# Altium footprint library IPC-SM-782 Section 11.2 SQFP_QFP-Square.PcbLib: 78 footprints (part 3 of 7)
Each footprint in its own frame and in the unit in brackets; x right, y up, seen from the top. Pads: shape width x height; smd on the part's side, far side on the other; paste and mask are expansions set on the pad; w line width, h text height; cw(c..) or ccw(c..) is an arc to the next point about the centre after c.
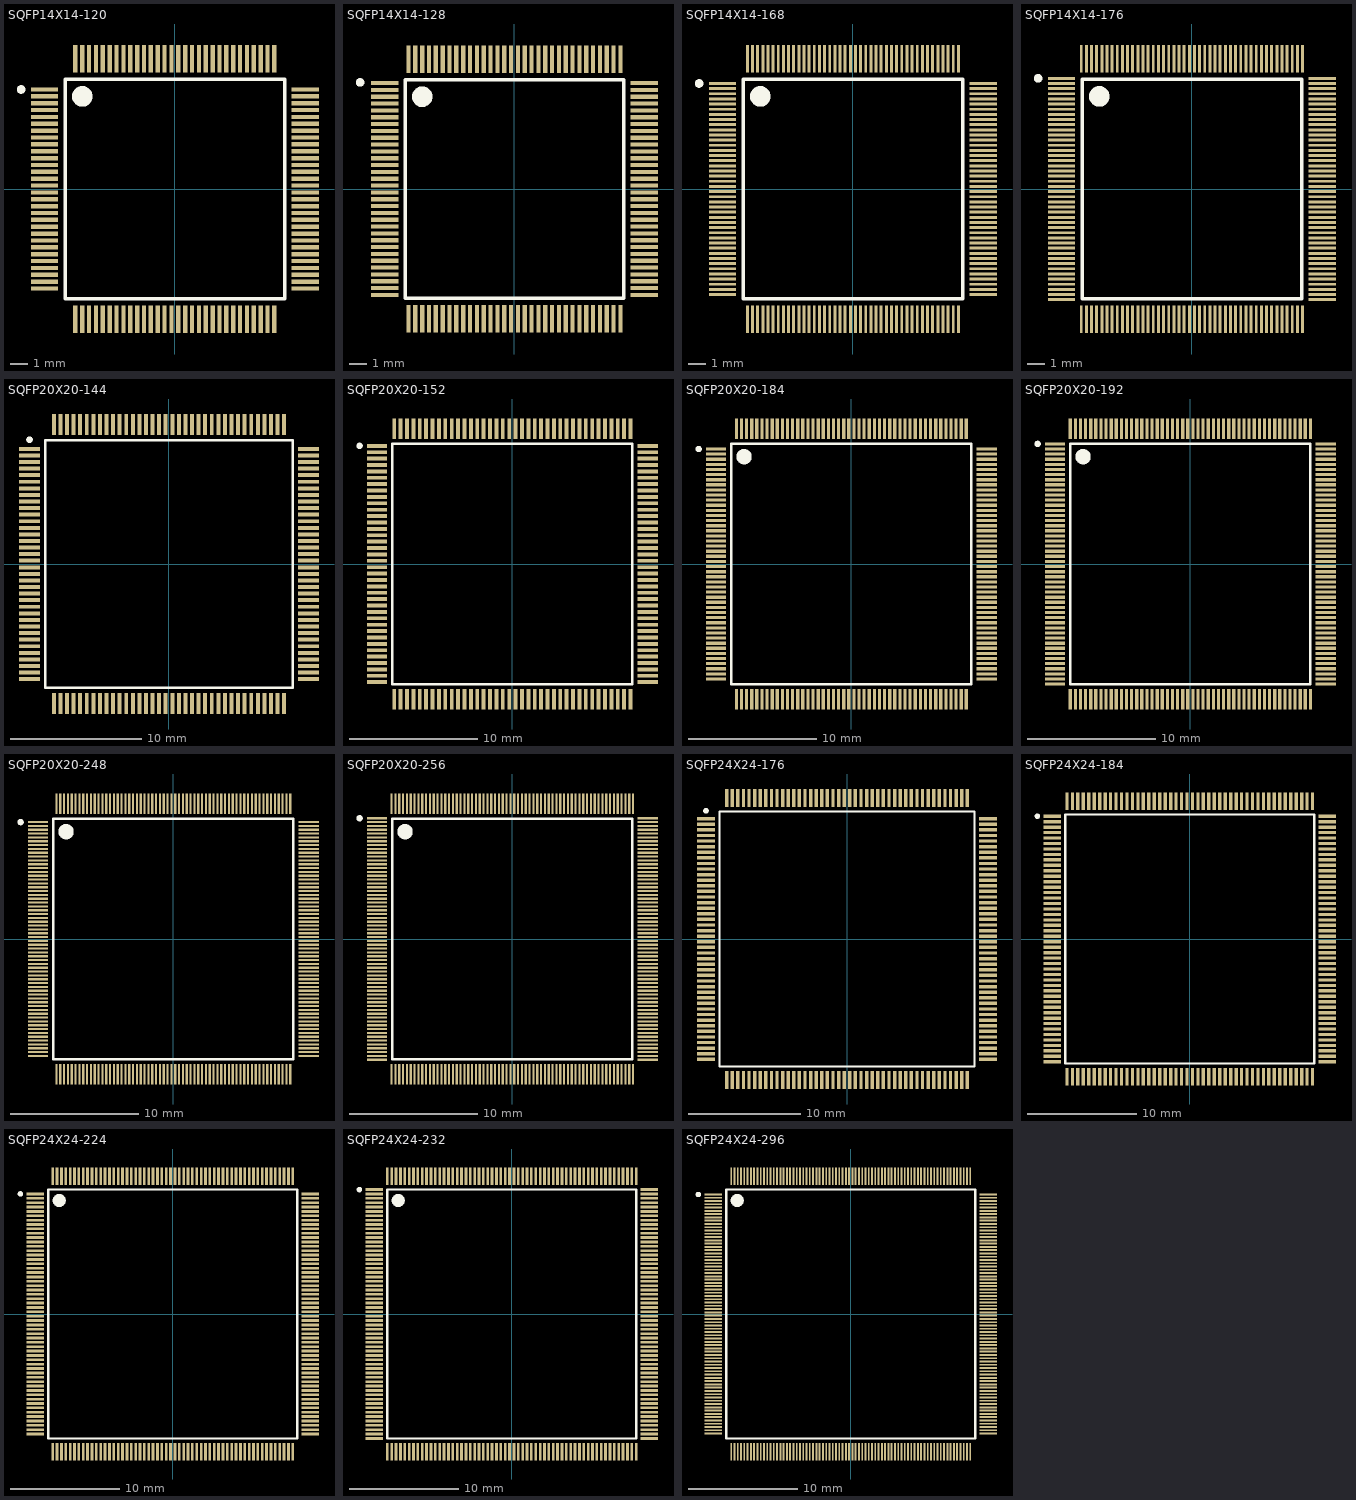
[diagram p2: the footprints below, top view; thin cyan lines are the x and y axes]

## SQFP14X14-120 [mm] "QFP; 120 Leads; Body 14 x 14 mm; Pitch 0.4 mm"
height 2.2
pads (120):
  rect 1.6x0.25 smd: 1(-7.6,5.8) 2(-7.6,5.4) 3(-7.6,5) 4(-7.6,4.6) 5(-7.6,4.2) 6(-7.6,3.8) 7(-7.6,3.4) 8(-7.6,3) 9(-7.6,2.6) 10(-7.6,2.2) 11(-7.6,1.8) 12(-7.6,1.4) 13(-7.6,1) 14(-7.6,0.6) 15(-7.6,0.2) 16(-7.6,-0.2) 17(-7.6,-0.6) 18(-7.6,-1) 19(-7.6,-1.4) 20(-7.6,-1.8) 21(-7.6,-2.2) 22(-7.6,-2.6) 23(-7.6,-3) 24(-7.6,-3.4) 25(-7.6,-3.8) 26(-7.6,-4.2) 27(-7.6,-4.6) 28(-7.6,-5) 29(-7.6,-5.4) 30(-7.6,-5.8) 61(7.6,-5.8) 62(7.6,-5.4) 63(7.6,-5) 64(7.6,-4.6) 65(7.6,-4.2) 66(7.6,-3.8) 67(7.6,-3.4) 68(7.6,-3) 69(7.6,-2.6) 70(7.6,-2.2) 71(7.6,-1.8) 72(7.6,-1.4) 73(7.6,-1) 74(7.6,-0.6) 75(7.6,-0.2) 76(7.6,0.2) 77(7.6,0.6) 78(7.6,1) 79(7.6,1.4) 80(7.6,1.8) 81(7.6,2.2) 82(7.6,2.6) 83(7.6,3) 84(7.6,3.4) 85(7.6,3.8) 86(7.6,4.2) 87(7.6,4.6) 88(7.6,5) 89(7.6,5.4) 90(7.6,5.8)
  rect 0.25x1.6 smd: 31(-5.8,-7.6) 32(-5.4,-7.6) 33(-5,-7.6) 34(-4.6,-7.6) 35(-4.2,-7.6) 36(-3.8,-7.6) 37(-3.4,-7.6) 38(-3,-7.6) 39(-2.6,-7.6) 40(-2.2,-7.6) 41(-1.8,-7.6) 42(-1.4,-7.6) 43(-1,-7.6) 44(-0.6,-7.6) 45(-0.2,-7.6) 46(0.2,-7.6) 47(0.6,-7.6) 48(1,-7.6) 49(1.4,-7.6) 50(1.8,-7.6) 51(2.2,-7.6) 52(2.6,-7.6) 53(3,-7.6) 54(3.4,-7.6) 55(3.8,-7.6) 56(4.2,-7.6) 57(4.6,-7.6) 58(5,-7.6) 59(5.4,-7.6) 60(5.8,-7.6) 91(5.8,7.6) 92(5.4,7.6) 93(5,7.6) 94(4.6,7.6) 95(4.2,7.6) 96(3.8,7.6) 97(3.4,7.6) 98(3,7.6) 99(2.6,7.6) 100(2.2,7.6) 101(1.8,7.6) 102(1.4,7.6) 103(1,7.6) 104(0.6,7.6) 105(0.2,7.6) 106(-0.2,7.6) 107(-0.6,7.6) 108(-1,7.6) 109(-1.4,7.6) 110(-1.8,7.6) 111(-2.2,7.6) 112(-2.6,7.6) 113(-3,7.6) 114(-3.4,7.6) 115(-3.8,7.6) 116(-4.2,7.6) 117(-4.6,7.6) 118(-5,7.6) 119(-5.4,7.6) 120(-5.8,7.6)
Top Overlay:
  circle w0.25: c-8.96,5.8 r0.125
  circle w0.6: c-5.4,5.4 r0.3
  lines w0.2: -6.4,-6.4 -6.4,6.4 6.4,6.4 6.4,-6.4 -6.4,-6.4

## SQFP14X14-128 [mm] "QFP; 128 Leads; Body 14 x 14 mm; Pitch 0.4 mm"
height 2.2
pads (128):
  rect 1.6x0.25 smd: 1(-7.6,6.2) 2(-7.6,5.8) 3(-7.6,5.4) 4(-7.6,5) 5(-7.6,4.6) 6(-7.6,4.2) 7(-7.6,3.8) 8(-7.6,3.4) 9(-7.6,3) 10(-7.6,2.6) 11(-7.6,2.2) 12(-7.6,1.8) 13(-7.6,1.4) 14(-7.6,1) 15(-7.6,0.6) 16(-7.6,0.2) 17(-7.6,-0.2) 18(-7.6,-0.6) 19(-7.6,-1) 20(-7.6,-1.4) 21(-7.6,-1.8) 22(-7.6,-2.2) 23(-7.6,-2.6) 24(-7.6,-3) 25(-7.6,-3.4) 26(-7.6,-3.8) 27(-7.6,-4.2) 28(-7.6,-4.6) 29(-7.6,-5) 30(-7.6,-5.4) 31(-7.6,-5.8) 32(-7.6,-6.2) 65(7.6,-6.2) 66(7.6,-5.8) 67(7.6,-5.4) 68(7.6,-5) 69(7.6,-4.6) 70(7.6,-4.2) 71(7.6,-3.8) 72(7.6,-3.4) 73(7.6,-3) 74(7.6,-2.6) 75(7.6,-2.2) 76(7.6,-1.8) 77(7.6,-1.4) 78(7.6,-1) 79(7.6,-0.6) 80(7.6,-0.2) 81(7.6,0.2) 82(7.6,0.6) 83(7.6,1) 84(7.6,1.4) 85(7.6,1.8) 86(7.6,2.2) 87(7.6,2.6) 88(7.6,3) 89(7.6,3.4) 90(7.6,3.8) 91(7.6,4.2) 92(7.6,4.6) 93(7.6,5) 94(7.6,5.4) 95(7.6,5.8) 96(7.6,6.2)
  rect 0.25x1.6 smd: 33(-6.2,-7.6) 34(-5.8,-7.6) 35(-5.4,-7.6) 36(-5,-7.6) 37(-4.6,-7.6) 38(-4.2,-7.6) 39(-3.8,-7.6) 40(-3.4,-7.6) 41(-3,-7.6) 42(-2.6,-7.6) 43(-2.2,-7.6) 44(-1.8,-7.6) 45(-1.4,-7.6) 46(-1,-7.6) 47(-0.6,-7.6) 48(-0.2,-7.6) 49(0.2,-7.6) 50(0.6,-7.6) 51(1,-7.6) 52(1.4,-7.6) 53(1.8,-7.6) 54(2.2,-7.6) 55(2.6,-7.6) 56(3,-7.6) 57(3.4,-7.6) 58(3.8,-7.6) 59(4.2,-7.6) 60(4.6,-7.6) 61(5,-7.6) 62(5.4,-7.6) 63(5.8,-7.6) 64(6.2,-7.6) 97(6.2,7.6) 98(5.8,7.6) 99(5.4,7.6) 100(5,7.6) 101(4.6,7.6) 102(4.2,7.6) 103(3.8,7.6) 104(3.4,7.6) 105(3,7.6) 106(2.6,7.6) 107(2.2,7.6) 108(1.8,7.6) 109(1.4,7.6) 110(1,7.6) 111(0.6,7.6) 112(0.2,7.6) 113(-0.2,7.6) 114(-0.6,7.6) 115(-1,7.6) 116(-1.4,7.6) 117(-1.8,7.6) 118(-2.2,7.6) 119(-2.6,7.6) 120(-3,7.6) 121(-3.4,7.6) 122(-3.8,7.6) 123(-4.2,7.6) 124(-4.6,7.6) 125(-5,7.6) 126(-5.4,7.6) 127(-5.8,7.6) 128(-6.2,7.6)
Top Overlay:
  circle w0.6: c-5.4,5.4 r0.3
  circle w0.25: c-9.033,6.239 r0.125
  lines w0.2: -6.4,-6.4 -6.4,6.4 6.4,6.4 6.4,-6.4 -6.4,-6.4

## SQFP14X14-168 [mm] "QFP; 168 Leads; Body 14 x 14 mm; Pitch 0.3 mm"
height 2.2
pads (168):
  rect 1.6x0.17 smd: 1(-7.6,6.15) 2(-7.6,5.85) 3(-7.6,5.55) 4(-7.6,5.25) 5(-7.6,4.95) 6(-7.6,4.65) 7(-7.6,4.35) 8(-7.6,4.05) 9(-7.6,3.75) 10(-7.6,3.45) 11(-7.6,3.15) 12(-7.6,2.85) 13(-7.6,2.55) 14(-7.6,2.25) 15(-7.6,1.95) 16(-7.6,1.65) 17(-7.6,1.35) 18(-7.6,1.05) 19(-7.6,0.75) 20(-7.6,0.45) 21(-7.6,0.15) 22(-7.6,-0.15) 23(-7.6,-0.45) 24(-7.6,-0.75) 25(-7.6,-1.05) 26(-7.6,-1.35) 27(-7.6,-1.65) 28(-7.6,-1.95) 29(-7.6,-2.25) 30(-7.6,-2.55) 31(-7.6,-2.85) 32(-7.6,-3.15) 33(-7.6,-3.45) 34(-7.6,-3.75) 35(-7.6,-4.05) 36(-7.6,-4.35) 37(-7.6,-4.65) 38(-7.6,-4.95) 39(-7.6,-5.25) 40(-7.6,-5.55) 41(-7.6,-5.85) 42(-7.6,-6.15) 85(7.6,-6.15) 86(7.6,-5.85) 87(7.6,-5.55) 88(7.6,-5.25) 89(7.6,-4.95) 90(7.6,-4.65) 91(7.6,-4.35) 92(7.6,-4.05) 93(7.6,-3.75) 94(7.6,-3.45) 95(7.6,-3.15) 96(7.6,-2.85) 97(7.6,-2.55) 98(7.6,-2.25) 99(7.6,-1.95) 100(7.6,-1.65) 101(7.6,-1.35) 102(7.6,-1.05) 103(7.6,-0.75) 104(7.6,-0.45) 105(7.6,-0.15) 106(7.6,0.15) 107(7.6,0.45) 108(7.6,0.75) 109(7.6,1.05) 110(7.6,1.35) 111(7.6,1.65) 112(7.6,1.95) 113(7.6,2.25) 114(7.6,2.55) 115(7.6,2.85) 116(7.6,3.15) 117(7.6,3.45) 118(7.6,3.75) 119(7.6,4.05) 120(7.6,4.35) 121(7.6,4.65) 122(7.6,4.95) 123(7.6,5.25) 124(7.6,5.55) 125(7.6,5.85) 126(7.6,6.15)
  rect 0.17x1.6 smd: 43(-6.15,-7.6) 44(-5.85,-7.6) 45(-5.55,-7.6) 46(-5.25,-7.6) 47(-4.95,-7.6) 48(-4.65,-7.6) 49(-4.35,-7.6) 50(-4.05,-7.6) 51(-3.75,-7.6) 52(-3.45,-7.6) 53(-3.15,-7.6) 54(-2.85,-7.6) 55(-2.55,-7.6) 56(-2.25,-7.6) 57(-1.95,-7.6) 58(-1.65,-7.6) 59(-1.35,-7.6) 60(-1.05,-7.6) 61(-0.75,-7.6) 62(-0.45,-7.6) 63(-0.15,-7.6) 64(0.15,-7.6) 65(0.45,-7.6) 66(0.75,-7.6) 67(1.05,-7.6) 68(1.35,-7.6) 69(1.65,-7.6) 70(1.95,-7.6) 71(2.25,-7.6) 72(2.55,-7.6) 73(2.85,-7.6) 74(3.15,-7.6) 75(3.45,-7.6) 76(3.75,-7.6) 77(4.05,-7.6) 78(4.35,-7.6) 79(4.65,-7.6) 80(4.95,-7.6) 81(5.25,-7.6) 82(5.55,-7.6) 83(5.85,-7.6) 84(6.15,-7.6) 127(6.15,7.6) 128(5.85,7.6) 129(5.55,7.6) 130(5.25,7.6) 131(4.95,7.6) 132(4.65,7.6) 133(4.35,7.6) 134(4.05,7.6) 135(3.75,7.6) 136(3.45,7.6) 137(3.15,7.6) 138(2.85,7.6) 139(2.55,7.6) 140(2.25,7.6) 141(1.95,7.6) 142(1.65,7.6) 143(1.35,7.6) 144(1.05,7.6) 145(0.75,7.6) 146(0.45,7.6) 147(0.15,7.6) 148(-0.15,7.6) 149(-0.45,7.6) 150(-0.75,7.6) 151(-1.05,7.6) 152(-1.35,7.6) 153(-1.65,7.6) 154(-1.95,7.6) 155(-2.25,7.6) 156(-2.55,7.6) 157(-2.85,7.6) 158(-3.15,7.6) 159(-3.45,7.6) 160(-3.75,7.6) 161(-4.05,7.6) 162(-4.35,7.6) 163(-4.65,7.6) 164(-4.95,7.6) 165(-5.25,7.6) 166(-5.55,7.6) 167(-5.85,7.6) 168(-6.15,7.6)
Top Overlay:
  circle w0.6: c-5.4,5.4 r0.3
  circle w0.25: c-8.96,6.15 r0.125
  lines w0.2: -6.4,-6.4 -6.4,6.4 6.4,6.4 6.4,-6.4 -6.4,-6.4

## SQFP14X14-176 [mm] "QFP; 176 Leads; Body 14 x 14 mm; Pitch 0.3 mm"
height 2.2
pads (176):
  rect 1.6x0.17 smd: 1(-7.6,6.45) 2(-7.6,6.15) 3(-7.6,5.85) 4(-7.6,5.55) 5(-7.6,5.25) 6(-7.6,4.95) 7(-7.6,4.65) 8(-7.6,4.35) 9(-7.6,4.05) 10(-7.6,3.75) 11(-7.6,3.45) 12(-7.6,3.15) 13(-7.6,2.85) 14(-7.6,2.55) 15(-7.6,2.25) 16(-7.6,1.95) 17(-7.6,1.65) 18(-7.6,1.35) 19(-7.6,1.05) 20(-7.6,0.75) 21(-7.6,0.45) 22(-7.6,0.15) 23(-7.6,-0.15) 24(-7.6,-0.45) 25(-7.6,-0.75) 26(-7.6,-1.05) 27(-7.6,-1.35) 28(-7.6,-1.65) 29(-7.6,-1.95) 30(-7.6,-2.25) 31(-7.6,-2.55) 32(-7.6,-2.85) 33(-7.6,-3.15) 34(-7.6,-3.45) 35(-7.6,-3.75) 36(-7.6,-4.05) 37(-7.6,-4.35) 38(-7.6,-4.65) 39(-7.6,-4.95) 40(-7.6,-5.25) 41(-7.6,-5.55) 42(-7.6,-5.85) 43(-7.6,-6.15) 44(-7.6,-6.45) 89(7.6,-6.45) 90(7.6,-6.15) 91(7.6,-5.85) 92(7.6,-5.55) 93(7.6,-5.25) 94(7.6,-4.95) 95(7.6,-4.65) 96(7.6,-4.35) 97(7.6,-4.05) 98(7.6,-3.75) 99(7.6,-3.45) 100(7.6,-3.15) 101(7.6,-2.85) 102(7.6,-2.55) 103(7.6,-2.25) 104(7.6,-1.95) 105(7.6,-1.65) 106(7.6,-1.35) 107(7.6,-1.05) 108(7.6,-0.75) 109(7.6,-0.45) 110(7.6,-0.15) 111(7.6,0.15) 112(7.6,0.45) 113(7.6,0.75) 114(7.6,1.05) 115(7.6,1.35) 116(7.6,1.65) 117(7.6,1.95) 118(7.6,2.25) 119(7.6,2.55) 120(7.6,2.85) 121(7.6,3.15) 122(7.6,3.45) 123(7.6,3.75) 124(7.6,4.05) 125(7.6,4.35) 126(7.6,4.65) 127(7.6,4.95) 128(7.6,5.25) 129(7.6,5.55) 130(7.6,5.85) 131(7.6,6.15) 132(7.6,6.45)
  rect 0.17x1.6 smd: 45(-6.45,-7.6) 46(-6.15,-7.6) 47(-5.85,-7.6) 48(-5.55,-7.6) 49(-5.25,-7.6) 50(-4.95,-7.6) 51(-4.65,-7.6) 52(-4.35,-7.6) 53(-4.05,-7.6) 54(-3.75,-7.6) 55(-3.45,-7.6) 56(-3.15,-7.6) 57(-2.85,-7.6) 58(-2.55,-7.6) 59(-2.25,-7.6) 60(-1.95,-7.6) 61(-1.65,-7.6) 62(-1.35,-7.6) 63(-1.05,-7.6) 64(-0.75,-7.6) 65(-0.45,-7.6) 66(-0.15,-7.6) 67(0.15,-7.6) 68(0.45,-7.6) 69(0.75,-7.6) 70(1.05,-7.6) 71(1.35,-7.6) 72(1.65,-7.6) 73(1.95,-7.6) 74(2.25,-7.6) 75(2.55,-7.6) 76(2.85,-7.6) 77(3.15,-7.6) 78(3.45,-7.6) 79(3.75,-7.6) 80(4.05,-7.6) 81(4.35,-7.6) 82(4.65,-7.6) 83(4.95,-7.6) 84(5.25,-7.6) 85(5.55,-7.6) 86(5.85,-7.6) 87(6.15,-7.6) 88(6.45,-7.6) 133(6.45,7.6) 134(6.15,7.6) 135(5.85,7.6) 136(5.55,7.6) 137(5.25,7.6) 138(4.95,7.6) 139(4.65,7.6) 140(4.35,7.6) 141(4.05,7.6) 142(3.75,7.6) 143(3.45,7.6) 144(3.15,7.6) 145(2.85,7.6) 146(2.55,7.6) 147(2.25,7.6) 148(1.95,7.6) 149(1.65,7.6) 150(1.35,7.6) 151(1.05,7.6) 152(0.75,7.6) 153(0.45,7.6) 154(0.15,7.6) 155(-0.15,7.6) 156(-0.45,7.6) 157(-0.75,7.6) 158(-1.05,7.6) 159(-1.35,7.6) 160(-1.65,7.6) 161(-1.95,7.6) 162(-2.25,7.6) 163(-2.55,7.6) 164(-2.85,7.6) 165(-3.15,7.6) 166(-3.45,7.6) 167(-3.75,7.6) 168(-4.05,7.6) 169(-4.35,7.6) 170(-4.65,7.6) 171(-4.95,7.6) 172(-5.25,7.6) 173(-5.55,7.6) 174(-5.85,7.6) 175(-6.15,7.6) 176(-6.45,7.6)
Top Overlay:
  circle w0.6: c-5.4,5.4 r0.3
  circle w0.25: c-8.96,6.45 r0.125
  lines w0.2: -6.4,-6.4 -6.4,6.4 6.4,6.4 6.4,-6.4 -6.4,-6.4

## SQFP20X20-144 [mm] "QFP; 144 Leads; Body 20 x 20 mm; Pitch 0.5 mm"
height 2.7
pads (144):
  rect 1.6x0.3 smd: 1(-10.6,8.75) 2(-10.6,8.25) 3(-10.6,7.75) 4(-10.6,7.25) 5(-10.6,6.75) 6(-10.6,6.25) 7(-10.6,5.75) 8(-10.6,5.25) 9(-10.6,4.75) 10(-10.6,4.25) 11(-10.6,3.75) 12(-10.6,3.25) 13(-10.6,2.75) 14(-10.6,2.25) 15(-10.6,1.75) 16(-10.6,1.25) 17(-10.6,0.75) 18(-10.6,0.25) 19(-10.6,-0.25) 20(-10.6,-0.75) 21(-10.6,-1.25) 22(-10.6,-1.75) 23(-10.6,-2.25) 24(-10.6,-2.75) 25(-10.6,-3.25) 26(-10.6,-3.75) 27(-10.6,-4.25) 28(-10.6,-4.75) 29(-10.6,-5.25) 30(-10.6,-5.75) 31(-10.6,-6.25) 32(-10.6,-6.75) 33(-10.6,-7.25) 34(-10.6,-7.75) 35(-10.6,-8.25) 36(-10.6,-8.75) 73(10.6,-8.75) 74(10.6,-8.25) 75(10.6,-7.75) 76(10.6,-7.25) 77(10.6,-6.75) 78(10.6,-6.25) 79(10.6,-5.75) 80(10.6,-5.25) 81(10.6,-4.75) 82(10.6,-4.25) 83(10.6,-3.75) 84(10.6,-3.25) 85(10.6,-2.75) 86(10.6,-2.25) 87(10.6,-1.75) 88(10.6,-1.25) 89(10.6,-0.75) 90(10.6,-0.25) 91(10.6,0.25) 92(10.6,0.75) 93(10.6,1.25) 94(10.6,1.75) 95(10.6,2.25) 96(10.6,2.75) 97(10.6,3.25) 98(10.6,3.75) 99(10.6,4.25) 100(10.6,4.75) 101(10.6,5.25) 102(10.6,5.75) 103(10.6,6.25) 104(10.6,6.75) 105(10.6,7.25) 106(10.6,7.75) 107(10.6,8.25) 108(10.6,8.75)
  rect 0.3x1.6 smd: 37(-8.75,-10.6) 38(-8.25,-10.6) 39(-7.75,-10.6) 40(-7.25,-10.6) 41(-6.75,-10.6) 42(-6.25,-10.6) 43(-5.75,-10.6) 44(-5.25,-10.6) 45(-4.75,-10.6) 46(-4.25,-10.6) 47(-3.75,-10.6) 48(-3.25,-10.6) 49(-2.75,-10.6) 50(-2.25,-10.6) 51(-1.75,-10.6) 52(-1.25,-10.6) 53(-0.75,-10.6) 54(-0.25,-10.6) 55(0.25,-10.6) 56(0.75,-10.6) 57(1.25,-10.6) 58(1.75,-10.6) 59(2.25,-10.6) 60(2.75,-10.6) 61(3.25,-10.6) 62(3.75,-10.6) 63(4.25,-10.6) 64(4.75,-10.6) 65(5.25,-10.6) 66(5.75,-10.6) 67(6.25,-10.6) 68(6.75,-10.6) 69(7.25,-10.6) 70(7.75,-10.6) 71(8.25,-10.6) 72(8.75,-10.6) 109(8.75,10.6) 110(8.25,10.6) 111(7.75,10.6) 112(7.25,10.6) 113(6.75,10.6) 114(6.25,10.6) 115(5.75,10.6) 116(5.25,10.6) 117(4.75,10.6) 118(4.25,10.6) 119(3.75,10.6) 120(3.25,10.6) 121(2.75,10.6) 122(2.25,10.6) 123(1.75,10.6) 124(1.25,10.6) 125(0.75,10.6) 126(0.25,10.6) 127(-0.25,10.6) 128(-0.75,10.6) 129(-1.25,10.6) 130(-1.75,10.6) 131(-2.25,10.6) 132(-2.75,10.6) 133(-3.25,10.6) 134(-3.75,10.6) 135(-4.25,10.6) 136(-4.75,10.6) 137(-5.25,10.6) 138(-5.75,10.6) 139(-6.25,10.6) 140(-6.75,10.6) 141(-7.25,10.6) 142(-7.75,10.6) 143(-8.25,10.6) 144(-8.75,10.6)
Top Overlay:
  circle w0.25: c-10.6,9.45 r0.125
  lines w0.2: -9.4,-9.4 -9.4,9.4 9.4,9.4 9.4,-9.4 -9.4,-9.4

## SQFP20X20-152 [mm] "QFP; 152 Leads; Body 20 x 20 mm; Pitch 0.5 mm"
height 2.7
pads (152):
  rect 1.6x0.3 smd: 1(-10.6,9.25) 2(-10.6,8.75) 3(-10.6,8.25) 4(-10.6,7.75) 5(-10.6,7.25) 6(-10.6,6.75) 7(-10.6,6.25) 8(-10.6,5.75) 9(-10.6,5.25) 10(-10.6,4.75) 11(-10.6,4.25) 12(-10.6,3.75) 13(-10.6,3.25) 14(-10.6,2.75) 15(-10.6,2.25) 16(-10.6,1.75) 17(-10.6,1.25) 18(-10.6,0.75) 19(-10.6,0.25) 20(-10.6,-0.25) 21(-10.6,-0.75) 22(-10.6,-1.25) 23(-10.6,-1.75) 24(-10.6,-2.25) 25(-10.6,-2.75) 26(-10.6,-3.25) 27(-10.6,-3.75) 28(-10.6,-4.25) 29(-10.6,-4.75) 30(-10.6,-5.25) 31(-10.6,-5.75) 32(-10.6,-6.25) 33(-10.6,-6.75) 34(-10.6,-7.25) 35(-10.6,-7.75) 36(-10.6,-8.25) 37(-10.6,-8.75) 38(-10.6,-9.25) 77(10.6,-9.25) 78(10.6,-8.75) 79(10.6,-8.25) 80(10.6,-7.75) 81(10.6,-7.25) 82(10.6,-6.75) 83(10.6,-6.25) 84(10.6,-5.75) 85(10.6,-5.25) 86(10.6,-4.75) 87(10.6,-4.25) 88(10.6,-3.75) 89(10.6,-3.25) 90(10.6,-2.75) 91(10.6,-2.25) 92(10.6,-1.75) 93(10.6,-1.25) 94(10.6,-0.75) 95(10.6,-0.25) 96(10.6,0.25) 97(10.6,0.75) 98(10.6,1.25) 99(10.6,1.75) 100(10.6,2.25) 101(10.6,2.75) 102(10.6,3.25) 103(10.6,3.75) 104(10.6,4.25) 105(10.6,4.75) 106(10.6,5.25) 107(10.6,5.75) 108(10.6,6.25) 109(10.6,6.75) 110(10.6,7.25) 111(10.6,7.75) 112(10.6,8.25) 113(10.6,8.75) 114(10.6,9.25)
  rect 0.3x1.6 smd: 39(-9.25,-10.6) 40(-8.75,-10.6) 41(-8.25,-10.6) 42(-7.75,-10.6) 43(-7.25,-10.6) 44(-6.75,-10.6) 45(-6.25,-10.6) 46(-5.75,-10.6) 47(-5.25,-10.6) 48(-4.75,-10.6) 49(-4.25,-10.6) 50(-3.75,-10.6) 51(-3.25,-10.6) 52(-2.75,-10.6) 53(-2.25,-10.6) 54(-1.75,-10.6) 55(-1.25,-10.6) 56(-0.75,-10.6) 57(-0.25,-10.6) 58(0.25,-10.6) 59(0.75,-10.6) 60(1.25,-10.6) 61(1.75,-10.6) 62(2.25,-10.6) 63(2.75,-10.6) 64(3.25,-10.6) 65(3.75,-10.6) 66(4.25,-10.6) 67(4.75,-10.6) 68(5.25,-10.6) 69(5.75,-10.6) 70(6.25,-10.6) 71(6.75,-10.6) 72(7.25,-10.6) 73(7.75,-10.6) 74(8.25,-10.6) 75(8.75,-10.6) 76(9.25,-10.6) 115(9.25,10.6) 116(8.75,10.6) 117(8.25,10.6) 118(7.75,10.6) 119(7.25,10.6) 120(6.75,10.6) 121(6.25,10.6) 122(5.75,10.6) 123(5.25,10.6) 124(4.75,10.6) 125(4.25,10.6) 126(3.75,10.6) 127(3.25,10.6) 128(2.75,10.6) 129(2.25,10.6) 130(1.75,10.6) 131(1.25,10.6) 132(0.75,10.6) 133(0.25,10.6) 134(-0.25,10.6) 135(-0.75,10.6) 136(-1.25,10.6) 137(-1.75,10.6) 138(-2.25,10.6) 139(-2.75,10.6) 140(-3.25,10.6) 141(-3.75,10.6) 142(-4.25,10.6) 143(-4.75,10.6) 144(-5.25,10.6) 145(-5.75,10.6) 146(-6.25,10.6) 147(-6.75,10.6) 148(-7.25,10.6) 149(-7.75,10.6) 150(-8.25,10.6) 151(-8.75,10.6) 152(-9.25,10.6)
Top Overlay:
  circle w0.25: c-11.96,9.25 r0.125
  lines w0.2: -9.4,-9.4 9.4,-9.4 9.4,9.4 -9.4,9.4 -9.4,-9.4

## SQFP20X20-184 [mm] "QFP; 184 Leads; Body 20 x 20 mm; Pitch 0.4 mm"
height 2.7
pads (184):
  rect 1.6x0.25 smd: 1(-10.6,9) 2(-10.6,8.6) 3(-10.6,8.2) 4(-10.6,7.8) 5(-10.6,7.4) 6(-10.6,7) 7(-10.6,6.6) 8(-10.6,6.2) 9(-10.6,5.8) 10(-10.6,5.4) 11(-10.6,5) 12(-10.6,4.6) 13(-10.6,4.2) 14(-10.6,3.8) 15(-10.6,3.4) 16(-10.6,3) 17(-10.6,2.6) 18(-10.6,2.2) 19(-10.6,1.8) 20(-10.6,1.4) 21(-10.6,1) 22(-10.6,0.6) 23(-10.6,0.2) 24(-10.6,-0.2) 25(-10.6,-0.6) 26(-10.6,-1) 27(-10.6,-1.4) 28(-10.6,-1.8) 29(-10.6,-2.2) 30(-10.6,-2.6) 31(-10.6,-3) 32(-10.6,-3.4) 33(-10.6,-3.8) 34(-10.6,-4.2) 35(-10.6,-4.6) 36(-10.6,-5) 37(-10.6,-5.4) 38(-10.6,-5.8) 39(-10.6,-6.2) 40(-10.6,-6.6) 41(-10.6,-7) 42(-10.6,-7.4) 43(-10.6,-7.8) 44(-10.6,-8.2) 45(-10.6,-8.6) 46(-10.6,-9) 93(10.6,-9) 94(10.6,-8.6) 95(10.6,-8.2) 96(10.6,-7.8) 97(10.6,-7.4) 98(10.6,-7) 99(10.6,-6.6) 100(10.6,-6.2) 101(10.6,-5.8) 102(10.6,-5.4) 103(10.6,-5) 104(10.6,-4.6) 105(10.6,-4.2) 106(10.6,-3.8) 107(10.6,-3.4) 108(10.6,-3) 109(10.6,-2.6) 110(10.6,-2.2) 111(10.6,-1.8) 112(10.6,-1.4) 113(10.6,-1) 114(10.6,-0.6) 115(10.6,-0.2) 116(10.6,0.2) 117(10.6,0.6) 118(10.6,1) 119(10.6,1.4) 120(10.6,1.8) 121(10.6,2.2) 122(10.6,2.6) 123(10.6,3) 124(10.6,3.4) 125(10.6,3.8) 126(10.6,4.2) 127(10.6,4.6) 128(10.6,5) 129(10.6,5.4) 130(10.6,5.8) 131(10.6,6.2) 132(10.6,6.6) 133(10.6,7) 134(10.6,7.4) 135(10.6,7.8) 136(10.6,8.2) 137(10.6,8.6) 138(10.6,9)
  rect 0.25x1.6 smd: 47(-9,-10.6) 48(-8.6,-10.6) 49(-8.2,-10.6) 50(-7.8,-10.6) 51(-7.4,-10.6) 52(-7,-10.6) 53(-6.6,-10.6) 54(-6.2,-10.6) 55(-5.8,-10.6) 56(-5.4,-10.6) 57(-5,-10.6) 58(-4.6,-10.6) 59(-4.2,-10.6) 60(-3.8,-10.6) 61(-3.4,-10.6) 62(-3,-10.6) 63(-2.6,-10.6) 64(-2.2,-10.6) 65(-1.8,-10.6) 66(-1.4,-10.6) 67(-1,-10.6) 68(-0.6,-10.6) 69(-0.2,-10.6) 70(0.2,-10.6) 71(0.6,-10.6) 72(1,-10.6) 73(1.4,-10.6) 74(1.8,-10.6) 75(2.2,-10.6) 76(2.6,-10.6) 77(3,-10.6) 78(3.4,-10.6) 79(3.8,-10.6) 80(4.2,-10.6) 81(4.6,-10.6) 82(5,-10.6) 83(5.4,-10.6) 84(5.8,-10.6) 85(6.2,-10.6) 86(6.6,-10.6) 87(7,-10.6) 88(7.4,-10.6) 89(7.8,-10.6) 90(8.2,-10.6) 91(8.6,-10.6) 92(9,-10.6) 139(9,10.6) 140(8.6,10.6) 141(8.2,10.6) 142(7.8,10.6) 143(7.4,10.6) 144(7,10.6) 145(6.6,10.6) 146(6.2,10.6) 147(5.8,10.6) 148(5.4,10.6) 149(5,10.6) 150(4.6,10.6) 151(4.2,10.6) 152(3.8,10.6) 153(3.4,10.6) 154(3,10.6) 155(2.6,10.6) 156(2.2,10.6) 157(1.8,10.6) 158(1.4,10.6) 159(1,10.6) 160(0.6,10.6) 161(0.2,10.6) 162(-0.2,10.6) 163(-0.6,10.6) 164(-1,10.6) 165(-1.4,10.6) 166(-1.8,10.6) 167(-2.2,10.6) 168(-2.6,10.6) 169(-3,10.6) 170(-3.4,10.6) 171(-3.8,10.6) 172(-4.2,10.6) 173(-4.6,10.6) 174(-5,10.6) 175(-5.4,10.6) 176(-5.8,10.6) 177(-6.2,10.6) 178(-6.6,10.6) 179(-7,10.6) 180(-7.4,10.6) 181(-7.8,10.6) 182(-8.2,10.6) 183(-8.6,10.6) 184(-9,10.6)
Top Overlay:
  circle w0.6: c-8.4,8.4 r0.3
  circle w0.25: c-11.96,9 r0.125
  lines w0.2: -9.4,-9.4 9.4,-9.4 9.4,9.4 -9.4,9.4 -9.4,-9.4

## SQFP20X20-192 [mm] "QFP; 192 Leads; Body 20 x 20 mm; Pitch 0.4 mm"
height 2.7
pads (192):
  rect 1.6x0.25 smd: 1(-10.6,9.4) 2(-10.6,9) 3(-10.6,8.6) 4(-10.6,8.2) 5(-10.6,7.8) 6(-10.6,7.4) 7(-10.6,7) 8(-10.6,6.6) 9(-10.6,6.2) 10(-10.6,5.8) 11(-10.6,5.4) 12(-10.6,5) 13(-10.6,4.6) 14(-10.6,4.2) 15(-10.6,3.8) 16(-10.6,3.4) 17(-10.6,3) 18(-10.6,2.6) 19(-10.6,2.2) 20(-10.6,1.8) 21(-10.6,1.4) 22(-10.6,1) 23(-10.6,0.6) 24(-10.6,0.2) 25(-10.6,-0.2) 26(-10.6,-0.6) 27(-10.6,-1) 28(-10.6,-1.4) 29(-10.6,-1.8) 30(-10.6,-2.2) 31(-10.6,-2.6) 32(-10.6,-3) 33(-10.6,-3.4) 34(-10.6,-3.8) 35(-10.6,-4.2) 36(-10.6,-4.6) 37(-10.6,-5) 38(-10.6,-5.4) 39(-10.6,-5.8) 40(-10.6,-6.2) 41(-10.6,-6.6) 42(-10.6,-7) 43(-10.6,-7.4) 44(-10.6,-7.8) 45(-10.6,-8.2) 46(-10.6,-8.6) 47(-10.6,-9) 48(-10.6,-9.4) 97(10.6,-9.4) 98(10.6,-9) 99(10.6,-8.6) 100(10.6,-8.2) 101(10.6,-7.8) 102(10.6,-7.4) 103(10.6,-7) 104(10.6,-6.6) 105(10.6,-6.2) 106(10.6,-5.8) 107(10.6,-5.4) 108(10.6,-5) 109(10.6,-4.6) 110(10.6,-4.2) 111(10.6,-3.8) 112(10.6,-3.4) 113(10.6,-3) 114(10.6,-2.6) 115(10.6,-2.2) 116(10.6,-1.8) 117(10.6,-1.4) 118(10.6,-1) 119(10.6,-0.6) 120(10.6,-0.2) 121(10.6,0.2) 122(10.6,0.6) 123(10.6,1) 124(10.6,1.4) 125(10.6,1.8) 126(10.6,2.2) 127(10.6,2.6) 128(10.6,3) 129(10.6,3.4) 130(10.6,3.8) 131(10.6,4.2) 132(10.6,4.6) 133(10.6,5) 134(10.6,5.4) 135(10.6,5.8) 136(10.6,6.2) 137(10.6,6.6) 138(10.6,7) 139(10.6,7.4) 140(10.6,7.8) 141(10.6,8.2) 142(10.6,8.6) 143(10.6,9) 144(10.6,9.4)
  rect 0.25x1.6 smd: 49(-9.4,-10.6) 50(-9,-10.6) 51(-8.6,-10.6) 52(-8.2,-10.6) 53(-7.8,-10.6) 54(-7.4,-10.6) 55(-7,-10.6) 56(-6.6,-10.6) 57(-6.2,-10.6) 58(-5.8,-10.6) 59(-5.4,-10.6) 60(-5,-10.6) 61(-4.6,-10.6) 62(-4.2,-10.6) 63(-3.8,-10.6) 64(-3.4,-10.6) 65(-3,-10.6) 66(-2.6,-10.6) 67(-2.2,-10.6) 68(-1.8,-10.6) 69(-1.4,-10.6) 70(-1,-10.6) 71(-0.6,-10.6) 72(-0.2,-10.6) 73(0.2,-10.6) 74(0.6,-10.6) 75(1,-10.6) 76(1.4,-10.6) 77(1.8,-10.6) 78(2.2,-10.6) 79(2.6,-10.6) 80(3,-10.6) 81(3.4,-10.6) 82(3.8,-10.6) 83(4.2,-10.6) 84(4.6,-10.6) 85(5,-10.6) 86(5.4,-10.6) 87(5.8,-10.6) 88(6.2,-10.6) 89(6.6,-10.6) 90(7,-10.6) 91(7.4,-10.6) 92(7.8,-10.6) 93(8.2,-10.6) 94(8.6,-10.6) 95(9,-10.6) 96(9.4,-10.6) 145(9.4,10.6) 146(9,10.6) 147(8.6,10.6) 148(8.2,10.6) 149(7.8,10.6) 150(7.4,10.6) 151(7,10.6) 152(6.6,10.6) 153(6.2,10.6) 154(5.8,10.6) 155(5.4,10.6) 156(5,10.6) 157(4.6,10.6) 158(4.2,10.6) 159(3.8,10.6) 160(3.4,10.6) 161(3,10.6) 162(2.6,10.6) 163(2.2,10.6) 164(1.8,10.6) 165(1.4,10.6) 166(1,10.6) 167(0.6,10.6) 168(0.2,10.6) 169(-0.2,10.6) 170(-0.6,10.6) 171(-1,10.6) 172(-1.4,10.6) 173(-1.8,10.6) 174(-2.2,10.6) 175(-2.6,10.6) 176(-3,10.6) 177(-3.4,10.6) 178(-3.8,10.6) 179(-4.2,10.6) 180(-4.6,10.6) 181(-5,10.6) 182(-5.4,10.6) 183(-5.8,10.6) 184(-6.2,10.6) 185(-6.6,10.6) 186(-7,10.6) 187(-7.4,10.6) 188(-7.8,10.6) 189(-8.2,10.6) 190(-8.6,10.6) 191(-9,10.6) 192(-9.4,10.6)
Top Overlay:
  circle w0.6: c-8.4,8.4 r0.3
  circle w0.25: c-11.96,9.4 r0.125
  lines w0.2: -9.4,-9.4 -9.4,9.4 9.4,9.4 9.4,-9.4 -9.4,-9.4

## SQFP20X20-248 [mm] "QFP; 248 Leads; Body 20 x 20 mm; Pitch 0.3 mm"
height 2.7
pads (248):
  rect 1.6x0.17 smd: 1(-10.6,9.15) 2(-10.6,8.85) 3(-10.6,8.55) 4(-10.6,8.25) 5(-10.6,7.95) 6(-10.6,7.65) 7(-10.6,7.35) 8(-10.6,7.05) 9(-10.6,6.75) 10(-10.6,6.45) 11(-10.6,6.15) 12(-10.6,5.85) 13(-10.6,5.55) 14(-10.6,5.25) 15(-10.6,4.95) 16(-10.6,4.65) 17(-10.6,4.35) 18(-10.6,4.05) 19(-10.6,3.75) 20(-10.6,3.45) 21(-10.6,3.15) 22(-10.6,2.85) 23(-10.6,2.55) 24(-10.6,2.25) 25(-10.6,1.95) 26(-10.6,1.65) 27(-10.6,1.35) 28(-10.6,1.05) 29(-10.6,0.75) 30(-10.6,0.45) 31(-10.6,0.15) 32(-10.6,-0.15) 33(-10.6,-0.45) 34(-10.6,-0.75) 35(-10.6,-1.05) 36(-10.6,-1.35) 37(-10.6,-1.65) 38(-10.6,-1.95) 39(-10.6,-2.25) 40(-10.6,-2.55) 41(-10.6,-2.85) 42(-10.6,-3.15) 43(-10.6,-3.45) 44(-10.6,-3.75) 45(-10.6,-4.05) 46(-10.6,-4.35) 47(-10.6,-4.65) 48(-10.6,-4.95) 49(-10.6,-5.25) 50(-10.6,-5.55) 51(-10.6,-5.85) 52(-10.6,-6.15) 53(-10.6,-6.45) 54(-10.6,-6.75) 55(-10.6,-7.05) 56(-10.6,-7.35) 57(-10.6,-7.65) 58(-10.6,-7.95) 59(-10.6,-8.25) 60(-10.6,-8.55) 61(-10.6,-8.85) 62(-10.6,-9.15) 125(10.6,-9.15) 126(10.6,-8.85) 127(10.6,-8.55) 128(10.6,-8.25) 129(10.6,-7.95) 130(10.6,-7.65) 131(10.6,-7.35) 132(10.6,-7.05) 133(10.6,-6.75) 134(10.6,-6.45) 135(10.6,-6.15) 136(10.6,-5.85) 137(10.6,-5.55) 138(10.6,-5.25) 139(10.6,-4.95) 140(10.6,-4.65) 141(10.6,-4.35) 142(10.6,-4.05) 143(10.6,-3.75) 144(10.6,-3.45) 145(10.6,-3.15) 146(10.6,-2.85) 147(10.6,-2.55) 148(10.6,-2.25) 149(10.6,-1.95) 150(10.6,-1.65) 151(10.6,-1.35) 152(10.6,-1.05) 153(10.6,-0.75) 154(10.6,-0.45) 155(10.6,-0.15) 156(10.6,0.15) 157(10.6,0.45) 158(10.6,0.75) 159(10.6,1.05) 160(10.6,1.35) 161(10.6,1.65) 162(10.6,1.95) 163(10.6,2.25) 164(10.6,2.55) 165(10.6,2.85) 166(10.6,3.15) 167(10.6,3.45) 168(10.6,3.75) 169(10.6,4.05) 170(10.6,4.35) 171(10.6,4.65) 172(10.6,4.95) 173(10.6,5.25) 174(10.6,5.55) 175(10.6,5.85) 176(10.6,6.15) 177(10.6,6.45) 178(10.6,6.75) 179(10.6,7.05) 180(10.6,7.35) 181(10.6,7.65) 182(10.6,7.95) 183(10.6,8.25) 184(10.6,8.55) 185(10.6,8.85) 186(10.6,9.15)
  rect 0.17x1.6 smd: 63(-9.15,-10.6) 64(-8.85,-10.6) 65(-8.55,-10.6) 66(-8.25,-10.6) 67(-7.95,-10.6) 68(-7.65,-10.6) 69(-7.35,-10.6) 70(-7.05,-10.6) 71(-6.75,-10.6) 72(-6.45,-10.6) 73(-6.15,-10.6) 74(-5.85,-10.6) 75(-5.55,-10.6) 76(-5.25,-10.6) 77(-4.95,-10.6) 78(-4.65,-10.6) 79(-4.35,-10.6) 80(-4.05,-10.6) 81(-3.75,-10.6) 82(-3.45,-10.6) 83(-3.15,-10.6) 84(-2.85,-10.6) 85(-2.55,-10.6) 86(-2.25,-10.6) 87(-1.95,-10.6) 88(-1.65,-10.6) 89(-1.35,-10.6) 90(-1.05,-10.6) 91(-0.75,-10.6) 92(-0.45,-10.6) 93(-0.15,-10.6) 94(0.15,-10.6) 95(0.45,-10.6) 96(0.75,-10.6) 97(1.05,-10.6) 98(1.35,-10.6) 99(1.65,-10.6) 100(1.95,-10.6) 101(2.25,-10.6) 102(2.55,-10.6) 103(2.85,-10.6) 104(3.15,-10.6) 105(3.45,-10.6) 106(3.75,-10.6) 107(4.05,-10.6) 108(4.35,-10.6) 109(4.65,-10.6) 110(4.95,-10.6) 111(5.25,-10.6) 112(5.55,-10.6) 113(5.85,-10.6) 114(6.15,-10.6) 115(6.45,-10.6) 116(6.75,-10.6) 117(7.05,-10.6) 118(7.35,-10.6) 119(7.65,-10.6) 120(7.95,-10.6) 121(8.25,-10.6) 122(8.55,-10.6) 123(8.85,-10.6) 124(9.15,-10.6) 187(9.15,10.6) 188(8.85,10.6) 189(8.55,10.6) 190(8.25,10.6) 191(7.95,10.6) 192(7.65,10.6) 193(7.35,10.6) 194(7.05,10.6) 195(6.75,10.6) 196(6.45,10.6) 197(6.15,10.6) 198(5.85,10.6) 199(5.55,10.6) 200(5.25,10.6) 201(4.95,10.6) 202(4.65,10.6) 203(4.35,10.6) 204(4.05,10.6) 205(3.75,10.6) 206(3.45,10.6) 207(3.15,10.6) 208(2.85,10.6) 209(2.55,10.6) 210(2.25,10.6) 211(1.95,10.6) 212(1.65,10.6) 213(1.35,10.6) 214(1.05,10.6) 215(0.75,10.6) 216(0.45,10.6) 217(0.15,10.6) 218(-0.15,10.6) 219(-0.45,10.6) 220(-0.75,10.6) 221(-1.05,10.6) 222(-1.35,10.6) 223(-1.65,10.6) 224(-1.95,10.6) 225(-2.25,10.6) 226(-2.55,10.6) 227(-2.85,10.6) 228(-3.15,10.6) 229(-3.45,10.6) 230(-3.75,10.6) 231(-4.05,10.6) 232(-4.35,10.6) 233(-4.65,10.6) 234(-4.95,10.6) 235(-5.25,10.6) 236(-5.55,10.6) 237(-5.85,10.6) 238(-6.15,10.6) 239(-6.45,10.6) 240(-6.75,10.6) 241(-7.05,10.6) 242(-7.35,10.6) 243(-7.65,10.6) 244(-7.95,10.6) 245(-8.25,10.6) 246(-8.55,10.6) 247(-8.85,10.6) 248(-9.15,10.6)
Top Overlay:
  circle w0.6: c-8.4,8.4 r0.3
  circle w0.25: c-11.96,9.15 r0.125
  lines w0.2: -9.4,-9.4 -9.4,9.4 9.4,9.4 9.4,-9.4 -9.4,-9.4

## SQFP20X20-256 [mm] "QFP; 256 Leads; Body 20 x 20 mm; Pitch 0.3 mm"
height 2.7
pads (256):
  rect 1.6x0.17 smd: 1(-10.6,9.45) 2(-10.6,9.15) 3(-10.6,8.85) 4(-10.6,8.55) 5(-10.6,8.25) 6(-10.6,7.95) 7(-10.6,7.65) 8(-10.6,7.35) 9(-10.6,7.05) 10(-10.6,6.75) 11(-10.6,6.45) 12(-10.6,6.15) 13(-10.6,5.85) 14(-10.6,5.55) 15(-10.6,5.25) 16(-10.6,4.95) 17(-10.6,4.65) 18(-10.6,4.35) 19(-10.6,4.05) 20(-10.6,3.75) 21(-10.6,3.45) 22(-10.6,3.15) 23(-10.6,2.85) 24(-10.6,2.55) 25(-10.6,2.25) 26(-10.6,1.95) 27(-10.6,1.65) 28(-10.6,1.35) 29(-10.6,1.05) 30(-10.6,0.75) 31(-10.6,0.45) 32(-10.6,0.15) 33(-10.6,-0.15) 34(-10.6,-0.45) 35(-10.6,-0.75) 36(-10.6,-1.05) 37(-10.6,-1.35) 38(-10.6,-1.65) 39(-10.6,-1.95) 40(-10.6,-2.25) 41(-10.6,-2.55) 42(-10.6,-2.85) 43(-10.6,-3.15) 44(-10.6,-3.45) 45(-10.6,-3.75) 46(-10.6,-4.05) 47(-10.6,-4.35) 48(-10.6,-4.65) 49(-10.6,-4.95) 50(-10.6,-5.25) 51(-10.6,-5.55) 52(-10.6,-5.85) 53(-10.6,-6.15) 54(-10.6,-6.45) 55(-10.6,-6.75) 56(-10.6,-7.05) 57(-10.6,-7.35) 58(-10.6,-7.65) 59(-10.6,-7.95) 60(-10.6,-8.25) 61(-10.6,-8.55) 62(-10.6,-8.85) 63(-10.6,-9.15) 64(-10.6,-9.45) 129(10.6,-9.45) 130(10.6,-9.15) 131(10.6,-8.85) 132(10.6,-8.55) 133(10.6,-8.25) 134(10.6,-7.95) 135(10.6,-7.65) 136(10.6,-7.35) 137(10.6,-7.05) 138(10.6,-6.75) 139(10.6,-6.45) 140(10.6,-6.15) 141(10.6,-5.85) 142(10.6,-5.55) 143(10.6,-5.25) 144(10.6,-4.95) 145(10.6,-4.65) 146(10.6,-4.35) 147(10.6,-4.05) 148(10.6,-3.75) 149(10.6,-3.45) 150(10.6,-3.15) 151(10.6,-2.85) 152(10.6,-2.55) 153(10.6,-2.25) 154(10.6,-1.95) 155(10.6,-1.65) 156(10.6,-1.35) 157(10.6,-1.05) 158(10.6,-0.75) 159(10.6,-0.45) 160(10.6,-0.15) 161(10.6,0.15) 162(10.6,0.45) 163(10.6,0.75) 164(10.6,1.05) 165(10.6,1.35) 166(10.6,1.65) 167(10.6,1.95) 168(10.6,2.25) 169(10.6,2.55) 170(10.6,2.85) 171(10.6,3.15) 172(10.6,3.45) 173(10.6,3.75) 174(10.6,4.05) 175(10.6,4.35) 176(10.6,4.65) 177(10.6,4.95) 178(10.6,5.25) 179(10.6,5.55) 180(10.6,5.85) 181(10.6,6.15) 182(10.6,6.45) 183(10.6,6.75) 184(10.6,7.05) 185(10.6,7.35) 186(10.6,7.65) 187(10.6,7.95) 188(10.6,8.25) 189(10.6,8.55) 190(10.6,8.85) 191(10.6,9.15) 192(10.6,9.45)
  rect 0.17x1.6 smd: 65(-9.45,-10.6) 66(-9.15,-10.6) 67(-8.85,-10.6) 68(-8.55,-10.6) 69(-8.25,-10.6) 70(-7.95,-10.6) 71(-7.65,-10.6) 72(-7.35,-10.6) 73(-7.05,-10.6) 74(-6.75,-10.6) 75(-6.45,-10.6) 76(-6.15,-10.6) 77(-5.85,-10.6) 78(-5.55,-10.6) 79(-5.25,-10.6) 80(-4.95,-10.6) 81(-4.65,-10.6) 82(-4.35,-10.6) 83(-4.05,-10.6) 84(-3.75,-10.6) 85(-3.45,-10.6) 86(-3.15,-10.6) 87(-2.85,-10.6) 88(-2.55,-10.6) 89(-2.25,-10.6) 90(-1.95,-10.6) 91(-1.65,-10.6) 92(-1.35,-10.6) 93(-1.05,-10.6) 94(-0.75,-10.6) 95(-0.45,-10.6) 96(-0.15,-10.6) 97(0.15,-10.6) 98(0.45,-10.6) 99(0.75,-10.6) 100(1.05,-10.6) 101(1.35,-10.6) 102(1.65,-10.6) 103(1.95,-10.6) 104(2.25,-10.6) 105(2.55,-10.6) 106(2.85,-10.6) 107(3.15,-10.6) 108(3.45,-10.6) 109(3.75,-10.6) 110(4.05,-10.6) 111(4.35,-10.6) 112(4.65,-10.6) 113(4.95,-10.6) 114(5.25,-10.6) 115(5.55,-10.6) 116(5.85,-10.6) 117(6.15,-10.6) 118(6.45,-10.6) 119(6.75,-10.6) 120(7.05,-10.6) 121(7.35,-10.6) 122(7.65,-10.6) 123(7.95,-10.6) 124(8.25,-10.6) 125(8.55,-10.6) 126(8.85,-10.6) 127(9.15,-10.6) 128(9.45,-10.6) 193(9.45,10.6) 194(9.15,10.6) 195(8.85,10.6) 196(8.55,10.6) 197(8.25,10.6) 198(7.95,10.6) 199(7.65,10.6) 200(7.35,10.6) 201(7.05,10.6) 202(6.75,10.6) 203(6.45,10.6) 204(6.15,10.6) 205(5.85,10.6) 206(5.55,10.6) 207(5.25,10.6) 208(4.95,10.6) 209(4.65,10.6) 210(4.35,10.6) 211(4.05,10.6) 212(3.75,10.6) 213(3.45,10.6) 214(3.15,10.6) 215(2.85,10.6) 216(2.55,10.6) 217(2.25,10.6) 218(1.95,10.6) 219(1.65,10.6) 220(1.35,10.6) 221(1.05,10.6) 222(0.75,10.6) 223(0.45,10.6) 224(0.15,10.6) 225(-0.15,10.6) 226(-0.45,10.6) 227(-0.75,10.6) 228(-1.05,10.6) 229(-1.35,10.6) 230(-1.65,10.6) 231(-1.95,10.6) 232(-2.25,10.6) 233(-2.55,10.6) 234(-2.85,10.6) 235(-3.15,10.6) 236(-3.45,10.6) 237(-3.75,10.6) 238(-4.05,10.6) 239(-4.35,10.6) 240(-4.65,10.6) 241(-4.95,10.6) 242(-5.25,10.6) 243(-5.55,10.6) 244(-5.85,10.6) 245(-6.15,10.6) 246(-6.45,10.6) 247(-6.75,10.6) 248(-7.05,10.6) 249(-7.35,10.6) 250(-7.65,10.6) 251(-7.95,10.6) 252(-8.25,10.6) 253(-8.55,10.6) 254(-8.85,10.6) 255(-9.15,10.6) 256(-9.45,10.6)
Top Overlay:
  circle w0.6: c-8.4,8.4 r0.3
  circle w0.25: c-11.96,9.45 r0.125
  lines w0.2: -9.4,-9.4 -9.4,9.4 9.4,9.4 9.4,-9.4 -9.4,-9.4

## SQFP24X24-176 [mm] "QFP; 176 Leads; Body 24 x 24 mm; Pitch 0.5 mm"
height 3.2
pads (176):
  rect 1.6x0.3 smd: 1(-12.6,10.75) 2(-12.6,10.25) 3(-12.6,9.75) 4(-12.6,9.25) 5(-12.6,8.75) 6(-12.6,8.25) 7(-12.6,7.75) 8(-12.6,7.25) 9(-12.6,6.75) 10(-12.6,6.25) 11(-12.6,5.75) 12(-12.6,5.25) 13(-12.6,4.75) 14(-12.6,4.25) 15(-12.6,3.75) 16(-12.6,3.25) 17(-12.6,2.75) 18(-12.6,2.25) 19(-12.6,1.75) 20(-12.6,1.25) 21(-12.6,0.75) 22(-12.6,0.25) 23(-12.6,-0.25) 24(-12.6,-0.75) 25(-12.6,-1.25) 26(-12.6,-1.75) 27(-12.6,-2.25) 28(-12.6,-2.75) 29(-12.6,-3.25) 30(-12.6,-3.75) 31(-12.6,-4.25) 32(-12.6,-4.75) 33(-12.6,-5.25) 34(-12.6,-5.75) 35(-12.6,-6.25) 36(-12.6,-6.75) 37(-12.6,-7.25) 38(-12.6,-7.75) 39(-12.6,-8.25) 40(-12.6,-8.75) 41(-12.6,-9.25) 42(-12.6,-9.75) 43(-12.6,-10.25) 44(-12.6,-10.75) 89(12.6,-10.75) 90(12.6,-10.25) 91(12.6,-9.75) 92(12.6,-9.25) 93(12.6,-8.75) 94(12.6,-8.25) 95(12.6,-7.75) 96(12.6,-7.25) 97(12.6,-6.75) 98(12.6,-6.25) 99(12.6,-5.75) 100(12.6,-5.25) 101(12.6,-4.75) 102(12.6,-4.25) 103(12.6,-3.75) 104(12.6,-3.25) 105(12.6,-2.75) 106(12.6,-2.25) 107(12.6,-1.75) 108(12.6,-1.25) 109(12.6,-0.75) 110(12.6,-0.25) 111(12.6,0.25) 112(12.6,0.75) 113(12.6,1.25) 114(12.6,1.75) 115(12.6,2.25) 116(12.6,2.75) 117(12.6,3.25) 118(12.6,3.75) 119(12.6,4.25) 120(12.6,4.75) 121(12.6,5.25) 122(12.6,5.75) 123(12.6,6.25) 124(12.6,6.75) 125(12.6,7.25) 126(12.6,7.75) 127(12.6,8.25) 128(12.6,8.75) 129(12.6,9.25) 130(12.6,9.75) 131(12.6,10.25) 132(12.6,10.75)
  rect 0.3x1.6 smd: 45(-10.75,-12.6) 46(-10.25,-12.6) 47(-9.75,-12.6) 48(-9.25,-12.6) 49(-8.75,-12.6) 50(-8.25,-12.6) 51(-7.75,-12.6) 52(-7.25,-12.6) 53(-6.75,-12.6) 54(-6.25,-12.6) 55(-5.75,-12.6) 56(-5.25,-12.6) 57(-4.75,-12.6) 58(-4.25,-12.6) 59(-3.75,-12.6) 60(-3.25,-12.6) 61(-2.75,-12.6) 62(-2.25,-12.6) 63(-1.75,-12.6) 64(-1.25,-12.6) 65(-0.75,-12.6) 66(-0.25,-12.6) 67(0.25,-12.6) 68(0.75,-12.6) 69(1.25,-12.6) 70(1.75,-12.6) 71(2.25,-12.6) 72(2.75,-12.6) 73(3.25,-12.6) 74(3.75,-12.6) 75(4.25,-12.6) 76(4.75,-12.6) 77(5.25,-12.6) 78(5.75,-12.6) 79(6.25,-12.6) 80(6.75,-12.6) 81(7.25,-12.6) 82(7.75,-12.6) 83(8.25,-12.6) 84(8.75,-12.6) 85(9.25,-12.6) 86(9.75,-12.6) 87(10.25,-12.6) 88(10.75,-12.6) 133(10.75,12.6) 134(10.25,12.6) 135(9.75,12.6) 136(9.25,12.6) 137(8.75,12.6) 138(8.25,12.6) 139(7.75,12.6) 140(7.25,12.6) 141(6.75,12.6) 142(6.25,12.6) 143(5.75,12.6) 144(5.25,12.6) 145(4.75,12.6) 146(4.25,12.6) 147(3.75,12.6) 148(3.25,12.6) 149(2.75,12.6) 150(2.25,12.6) 151(1.75,12.6) 152(1.25,12.6) 153(0.75,12.6) 154(0.25,12.6) 155(-0.25,12.6) 156(-0.75,12.6) 157(-1.25,12.6) 158(-1.75,12.6) 159(-2.25,12.6) 160(-2.75,12.6) 161(-3.25,12.6) 162(-3.75,12.6) 163(-4.25,12.6) 164(-4.75,12.6) 165(-5.25,12.6) 166(-5.75,12.6) 167(-6.25,12.6) 168(-6.75,12.6) 169(-7.25,12.6) 170(-7.75,12.6) 171(-8.25,12.6) 172(-8.75,12.6) 173(-9.25,12.6) 174(-9.75,12.6) 175(-10.25,12.6) 176(-10.75,12.6)
Top Overlay:
  circle w0.25: c-12.6,11.45 r0.125
  lines w0.2: -11.4,-11.4 -11.4,11.4 11.4,11.4 11.4,-11.4 -11.4,-11.4

## SQFP24X24-184 [mm] "QFP; 184 Leads; Body 24 x 24 mm; Pitch 0.5 mm"
height 3.2
pads (184):
  rect 1.6x0.3 smd: 1(-12.6,11.25) 2(-12.6,10.75) 3(-12.6,10.25) 4(-12.6,9.75) 5(-12.6,9.25) 6(-12.6,8.75) 7(-12.6,8.25) 8(-12.6,7.75) 9(-12.6,7.25) 10(-12.6,6.75) 11(-12.6,6.25) 12(-12.6,5.75) 13(-12.6,5.25) 14(-12.6,4.75) 15(-12.6,4.25) 16(-12.6,3.75) 17(-12.6,3.25) 18(-12.6,2.75) 19(-12.6,2.25) 20(-12.6,1.75) 21(-12.6,1.25) 22(-12.6,0.75) 23(-12.6,0.25) 24(-12.6,-0.25) 25(-12.6,-0.75) 26(-12.6,-1.25) 27(-12.6,-1.75) 28(-12.6,-2.25) 29(-12.6,-2.75) 30(-12.6,-3.25) 31(-12.6,-3.75) 32(-12.6,-4.25) 33(-12.6,-4.75) 34(-12.6,-5.25) 35(-12.6,-5.75) 36(-12.6,-6.25) 37(-12.6,-6.75) 38(-12.6,-7.25) 39(-12.6,-7.75) 40(-12.6,-8.25) 41(-12.6,-8.75) 42(-12.6,-9.25) 43(-12.6,-9.75) 44(-12.6,-10.25) 45(-12.6,-10.75) 46(-12.6,-11.25) 93(12.6,-11.25) 94(12.6,-10.75) 95(12.6,-10.25) 96(12.6,-9.75) 97(12.6,-9.25) 98(12.6,-8.75) 99(12.6,-8.25) 100(12.6,-7.75) 101(12.6,-7.25) 102(12.6,-6.75) 103(12.6,-6.25) 104(12.6,-5.75) 105(12.6,-5.25) 106(12.6,-4.75) 107(12.6,-4.25) 108(12.6,-3.75) 109(12.6,-3.25) 110(12.6,-2.75) 111(12.6,-2.25) 112(12.6,-1.75) 113(12.6,-1.25) 114(12.6,-0.75) 115(12.6,-0.25) 116(12.6,0.25) 117(12.6,0.75) 118(12.6,1.25) 119(12.6,1.75) 120(12.6,2.25) 121(12.6,2.75) 122(12.6,3.25) 123(12.6,3.75) 124(12.6,4.25) 125(12.6,4.75) 126(12.6,5.25) 127(12.6,5.75) 128(12.6,6.25) 129(12.6,6.75) 130(12.6,7.25) 131(12.6,7.75) 132(12.6,8.25) 133(12.6,8.75) 134(12.6,9.25) 135(12.6,9.75) 136(12.6,10.25) 137(12.6,10.75) 138(12.6,11.25)
  rect 0.3x1.6 smd: 47(-11.25,-12.6) 48(-10.75,-12.6) 49(-10.25,-12.6) 50(-9.75,-12.6) 51(-9.25,-12.6) 52(-8.75,-12.6) 53(-8.25,-12.6) 54(-7.75,-12.6) 55(-7.25,-12.6) 56(-6.75,-12.6) 57(-6.25,-12.6) 58(-5.75,-12.6) 59(-5.25,-12.6) 60(-4.75,-12.6) 61(-4.25,-12.6) 62(-3.75,-12.6) 63(-3.25,-12.6) 64(-2.75,-12.6) 65(-2.25,-12.6) 66(-1.75,-12.6) 67(-1.25,-12.6) 68(-0.75,-12.6) 69(-0.25,-12.6) 70(0.25,-12.6) 71(0.75,-12.6) 72(1.25,-12.6) 73(1.75,-12.6) 74(2.25,-12.6) 75(2.75,-12.6) 76(3.25,-12.6) 77(3.75,-12.6) 78(4.25,-12.6) 79(4.75,-12.6) 80(5.25,-12.6) 81(5.75,-12.6) 82(6.25,-12.6) 83(6.75,-12.6) 84(7.25,-12.6) 85(7.75,-12.6) 86(8.25,-12.6) 87(8.75,-12.6) 88(9.25,-12.6) 89(9.75,-12.6) 90(10.25,-12.6) 91(10.75,-12.6) 92(11.25,-12.6) 139(11.25,12.6) 140(10.75,12.6) 141(10.25,12.6) 142(9.75,12.6) 143(9.25,12.6) 144(8.75,12.6) 145(8.25,12.6) 146(7.75,12.6) 147(7.25,12.6) 148(6.75,12.6) 149(6.25,12.6) 150(5.75,12.6) 151(5.25,12.6) 152(4.75,12.6) 153(4.25,12.6) 154(3.75,12.6) 155(3.25,12.6) 156(2.75,12.6) 157(2.25,12.6) 158(1.75,12.6) 159(1.25,12.6) 160(0.75,12.6) 161(0.25,12.6) 162(-0.25,12.6) 163(-0.75,12.6) 164(-1.25,12.6) 165(-1.75,12.6) 166(-2.25,12.6) 167(-2.75,12.6) 168(-3.25,12.6) 169(-3.75,12.6) 170(-4.25,12.6) 171(-4.75,12.6) 172(-5.25,12.6) 173(-5.75,12.6) 174(-6.25,12.6) 175(-6.75,12.6) 176(-7.25,12.6) 177(-7.75,12.6) 178(-8.25,12.6) 179(-8.75,12.6) 180(-9.25,12.6) 181(-9.75,12.6) 182(-10.25,12.6) 183(-10.75,12.6) 184(-11.25,12.6)
Top Overlay:
  circle w0.25: c-13.96,11.25 r0.125
  lines w0.2: -11.4,-11.4 11.4,-11.4 11.4,11.4 -11.4,11.4 -11.4,-11.4

## SQFP24X24-224 [mm] "QFP; 224 Leads; Body 24 x 24 mm; Pitch 0.4 mm"
height 3.2
pads (224):
  rect 1.6x0.25 smd: 1(-12.6,11) 2(-12.6,10.6) 3(-12.6,10.2) 4(-12.6,9.8) 5(-12.6,9.4) 6(-12.6,9) 7(-12.6,8.6) 8(-12.6,8.2) 9(-12.6,7.8) 10(-12.6,7.4) 11(-12.6,7) 12(-12.6,6.6) 13(-12.6,6.2) 14(-12.6,5.8) 15(-12.6,5.4) 16(-12.6,5) 17(-12.6,4.6) 18(-12.6,4.2) 19(-12.6,3.8) 20(-12.6,3.4) 21(-12.6,3) 22(-12.6,2.6) 23(-12.6,2.2) 24(-12.6,1.8) 25(-12.6,1.4) 26(-12.6,1) 27(-12.6,0.6) 28(-12.6,0.2) 29(-12.6,-0.2) 30(-12.6,-0.6) 31(-12.6,-1) 32(-12.6,-1.4) 33(-12.6,-1.8) 34(-12.6,-2.2) 35(-12.6,-2.6) 36(-12.6,-3) 37(-12.6,-3.4) 38(-12.6,-3.8) 39(-12.6,-4.2) 40(-12.6,-4.6) 41(-12.6,-5) 42(-12.6,-5.4) 43(-12.6,-5.8) 44(-12.6,-6.2) 45(-12.6,-6.6) 46(-12.6,-7) 47(-12.6,-7.4) 48(-12.6,-7.8) 49(-12.6,-8.2) 50(-12.6,-8.6) 51(-12.6,-9) 52(-12.6,-9.4) 53(-12.6,-9.8) 54(-12.6,-10.2) 55(-12.6,-10.6) 56(-12.6,-11) 113(12.6,-11) 114(12.6,-10.6) 115(12.6,-10.2) 116(12.6,-9.8) 117(12.6,-9.4) 118(12.6,-9) 119(12.6,-8.6) 120(12.6,-8.2) 121(12.6,-7.8) 122(12.6,-7.4) 123(12.6,-7) 124(12.6,-6.6) 125(12.6,-6.2) 126(12.6,-5.8) 127(12.6,-5.4) 128(12.6,-5) 129(12.6,-4.6) 130(12.6,-4.2) 131(12.6,-3.8) 132(12.6,-3.4) 133(12.6,-3) 134(12.6,-2.6) 135(12.6,-2.2) 136(12.6,-1.8) 137(12.6,-1.4) 138(12.6,-1) 139(12.6,-0.6) 140(12.6,-0.2) 141(12.6,0.2) 142(12.6,0.6) 143(12.6,1) 144(12.6,1.4) 145(12.6,1.8) 146(12.6,2.2) 147(12.6,2.6) 148(12.6,3) 149(12.6,3.4) 150(12.6,3.8) 151(12.6,4.2) 152(12.6,4.6) 153(12.6,5) 154(12.6,5.4) 155(12.6,5.8) 156(12.6,6.2) 157(12.6,6.6) 158(12.6,7) 159(12.6,7.4) 160(12.6,7.8) 161(12.6,8.2) 162(12.6,8.6) 163(12.6,9) 164(12.6,9.4) 165(12.6,9.8) 166(12.6,10.2) 167(12.6,10.6) 168(12.6,11)
  rect 0.25x1.6 smd: 57(-11,-12.6) 58(-10.6,-12.6) 59(-10.2,-12.6) 60(-9.8,-12.6) 61(-9.4,-12.6) 62(-9,-12.6) 63(-8.6,-12.6) 64(-8.2,-12.6) 65(-7.8,-12.6) 66(-7.4,-12.6) 67(-7,-12.6) 68(-6.6,-12.6) 69(-6.2,-12.6) 70(-5.8,-12.6) 71(-5.4,-12.6) 72(-5,-12.6) 73(-4.6,-12.6) 74(-4.2,-12.6) 75(-3.8,-12.6) 76(-3.4,-12.6) 77(-3,-12.6) 78(-2.6,-12.6) 79(-2.2,-12.6) 80(-1.8,-12.6) 81(-1.4,-12.6) 82(-1,-12.6) 83(-0.6,-12.6) 84(-0.2,-12.6) 85(0.2,-12.6) 86(0.6,-12.6) 87(1,-12.6) 88(1.4,-12.6) 89(1.8,-12.6) 90(2.2,-12.6) 91(2.6,-12.6) 92(3,-12.6) 93(3.4,-12.6) 94(3.8,-12.6) 95(4.2,-12.6) 96(4.6,-12.6) 97(5,-12.6) 98(5.4,-12.6) 99(5.8,-12.6) 100(6.2,-12.6) 101(6.6,-12.6) 102(7,-12.6) 103(7.4,-12.6) 104(7.8,-12.6) 105(8.2,-12.6) 106(8.6,-12.6) 107(9,-12.6) 108(9.4,-12.6) 109(9.8,-12.6) 110(10.2,-12.6) 111(10.6,-12.6) 112(11,-12.6) 169(11,12.6) 170(10.6,12.6) 171(10.2,12.6) 172(9.8,12.6) 173(9.4,12.6) 174(9,12.6) 175(8.6,12.6) 176(8.2,12.6) 177(7.8,12.6) 178(7.4,12.6) 179(7,12.6) 180(6.6,12.6) 181(6.2,12.6) 182(5.8,12.6) 183(5.4,12.6) 184(5,12.6) 185(4.6,12.6) 186(4.2,12.6) 187(3.8,12.6) 188(3.4,12.6) 189(3,12.6) 190(2.6,12.6) 191(2.2,12.6) 192(1.8,12.6) 193(1.4,12.6) 194(1,12.6) 195(0.6,12.6) 196(0.2,12.6) 197(-0.2,12.6) 198(-0.6,12.6) 199(-1,12.6) 200(-1.4,12.6) 201(-1.8,12.6) 202(-2.2,12.6) 203(-2.6,12.6) 204(-3,12.6) 205(-3.4,12.6) 206(-3.8,12.6) 207(-4.2,12.6) 208(-4.6,12.6) 209(-5,12.6) 210(-5.4,12.6) 211(-5.8,12.6) 212(-6.2,12.6) 213(-6.6,12.6) 214(-7,12.6) 215(-7.4,12.6) 216(-7.8,12.6) 217(-8.2,12.6) 218(-8.6,12.6) 219(-9,12.6) 220(-9.4,12.6) 221(-9.8,12.6) 222(-10.2,12.6) 223(-10.6,12.6) 224(-11,12.6)
Top Overlay:
  circle w0.25: c-13.96,11 r0.125
  circle w0.6: c-10.4,10.4 r0.3
  lines w0.2: -11.4,-11.4 11.4,-11.4 11.4,11.4 -11.4,11.4 -11.4,-11.4

## SQFP24X24-232 [mm] "QFP; 232 Leads; Body 24 x 24 mm; Pitch 0.4 mm"
height 3.2
pads (232):
  rect 1.6x0.25 smd: 1(-12.6,11.4) 2(-12.6,11) 3(-12.6,10.6) 4(-12.6,10.2) 5(-12.6,9.8) 6(-12.6,9.4) 7(-12.6,9) 8(-12.6,8.6) 9(-12.6,8.2) 10(-12.6,7.8) 11(-12.6,7.4) 12(-12.6,7) 13(-12.6,6.6) 14(-12.6,6.2) 15(-12.6,5.8) 16(-12.6,5.4) 17(-12.6,5) 18(-12.6,4.6) 19(-12.6,4.2) 20(-12.6,3.8) 21(-12.6,3.4) 22(-12.6,3) 23(-12.6,2.6) 24(-12.6,2.2) 25(-12.6,1.8) 26(-12.6,1.4) 27(-12.6,1) 28(-12.6,0.6) 29(-12.6,0.2) 30(-12.6,-0.2) 31(-12.6,-0.6) 32(-12.6,-1) 33(-12.6,-1.4) 34(-12.6,-1.8) 35(-12.6,-2.2) 36(-12.6,-2.6) 37(-12.6,-3) 38(-12.6,-3.4) 39(-12.6,-3.8) 40(-12.6,-4.2) 41(-12.6,-4.6) 42(-12.6,-5) 43(-12.6,-5.4) 44(-12.6,-5.8) 45(-12.6,-6.2) 46(-12.6,-6.6) 47(-12.6,-7) 48(-12.6,-7.4) 49(-12.6,-7.8) 50(-12.6,-8.2) 51(-12.6,-8.6) 52(-12.6,-9) 53(-12.6,-9.4) 54(-12.6,-9.8) 55(-12.6,-10.2) 56(-12.6,-10.6) 57(-12.6,-11) 58(-12.6,-11.4) 117(12.6,-11.4) 118(12.6,-11) 119(12.6,-10.6) 120(12.6,-10.2) 121(12.6,-9.8) 122(12.6,-9.4) 123(12.6,-9) 124(12.6,-8.6) 125(12.6,-8.2) 126(12.6,-7.8) 127(12.6,-7.4) 128(12.6,-7) 129(12.6,-6.6) 130(12.6,-6.2) 131(12.6,-5.8) 132(12.6,-5.4) 133(12.6,-5) 134(12.6,-4.6) 135(12.6,-4.2) 136(12.6,-3.8) 137(12.6,-3.4) 138(12.6,-3) 139(12.6,-2.6) 140(12.6,-2.2) 141(12.6,-1.8) 142(12.6,-1.4) 143(12.6,-1) 144(12.6,-0.6) 145(12.6,-0.2) 146(12.6,0.2) 147(12.6,0.6) 148(12.6,1) 149(12.6,1.4) 150(12.6,1.8) 151(12.6,2.2) 152(12.6,2.6) 153(12.6,3) 154(12.6,3.4) 155(12.6,3.8) 156(12.6,4.2) 157(12.6,4.6) 158(12.6,5) 159(12.6,5.4) 160(12.6,5.8) 161(12.6,6.2) 162(12.6,6.6) 163(12.6,7) 164(12.6,7.4) 165(12.6,7.8) 166(12.6,8.2) 167(12.6,8.6) 168(12.6,9) 169(12.6,9.4) 170(12.6,9.8) 171(12.6,10.2) 172(12.6,10.6) 173(12.6,11) 174(12.6,11.4)
  rect 0.25x1.6 smd: 59(-11.4,-12.6) 60(-11,-12.6) 61(-10.6,-12.6) 62(-10.2,-12.6) 63(-9.8,-12.6) 64(-9.4,-12.6) 65(-9,-12.6) 66(-8.6,-12.6) 67(-8.2,-12.6) 68(-7.8,-12.6) 69(-7.4,-12.6) 70(-7,-12.6) 71(-6.6,-12.6) 72(-6.2,-12.6) 73(-5.8,-12.6) 74(-5.4,-12.6) 75(-5,-12.6) 76(-4.6,-12.6) 77(-4.2,-12.6) 78(-3.8,-12.6) 79(-3.4,-12.6) 80(-3,-12.6) 81(-2.6,-12.6) 82(-2.2,-12.6) 83(-1.8,-12.6) 84(-1.4,-12.6) 85(-1,-12.6) 86(-0.6,-12.6) 87(-0.2,-12.6) 88(0.2,-12.6) 89(0.6,-12.6) 90(1,-12.6) 91(1.4,-12.6) 92(1.8,-12.6) 93(2.2,-12.6) 94(2.6,-12.6) 95(3,-12.6) 96(3.4,-12.6) 97(3.8,-12.6) 98(4.2,-12.6) 99(4.6,-12.6) 100(5,-12.6) 101(5.4,-12.6) 102(5.8,-12.6) 103(6.2,-12.6) 104(6.6,-12.6) 105(7,-12.6) 106(7.4,-12.6) 107(7.8,-12.6) 108(8.2,-12.6) 109(8.6,-12.6) 110(9,-12.6) 111(9.4,-12.6) 112(9.8,-12.6) 113(10.2,-12.6) 114(10.6,-12.6) 115(11,-12.6) 116(11.4,-12.6) 175(11.4,12.6) 176(11,12.6) 177(10.6,12.6) 178(10.2,12.6) 179(9.8,12.6) 180(9.4,12.6) 181(9,12.6) 182(8.6,12.6) 183(8.2,12.6) 184(7.8,12.6) 185(7.4,12.6) 186(7,12.6) 187(6.6,12.6) 188(6.2,12.6) 189(5.8,12.6) 190(5.4,12.6) 191(5,12.6) 192(4.6,12.6) 193(4.2,12.6) 194(3.8,12.6) 195(3.4,12.6) 196(3,12.6) 197(2.6,12.6) 198(2.2,12.6) 199(1.8,12.6) 200(1.4,12.6) 201(1,12.6) 202(0.6,12.6) 203(0.2,12.6) 204(-0.2,12.6) 205(-0.6,12.6) 206(-1,12.6) 207(-1.4,12.6) 208(-1.8,12.6) 209(-2.2,12.6) 210(-2.6,12.6) 211(-3,12.6) 212(-3.4,12.6) 213(-3.8,12.6) 214(-4.2,12.6) 215(-4.6,12.6) 216(-5,12.6) 217(-5.4,12.6) 218(-5.8,12.6) 219(-6.2,12.6) 220(-6.6,12.6) 221(-7,12.6) 222(-7.4,12.6) 223(-7.8,12.6) 224(-8.2,12.6) 225(-8.6,12.6) 226(-9,12.6) 227(-9.4,12.6) 228(-9.8,12.6) 229(-10.2,12.6) 230(-10.6,12.6) 231(-11,12.6) 232(-11.4,12.6)
Top Overlay:
  circle w0.25: c-13.96,11.4 r0.125
  circle w0.6: c-10.4,10.4 r0.3
  lines w0.2: -11.4,-11.4 11.4,-11.4 11.4,11.4 -11.4,11.4 -11.4,-11.4

## SQFP24X24-296 [mm] "QFP; 296 Leads; Body 24 x 24 mm; Pitch 0.3 mm"
height 3.2
pads (296):
  rect 1.6x0.17 smd: 1(-12.6,10.95) 2(-12.6,10.65) 3(-12.6,10.35) 4(-12.6,10.05) 5(-12.6,9.75) 6(-12.6,9.45) 7(-12.6,9.15) 8(-12.6,8.85) 9(-12.6,8.55) 10(-12.6,8.25) 11(-12.6,7.95) 12(-12.6,7.65) 13(-12.6,7.35) 14(-12.6,7.05) 15(-12.6,6.75) 16(-12.6,6.45) 17(-12.6,6.15) 18(-12.6,5.85) 19(-12.6,5.55) 20(-12.6,5.25) 21(-12.6,4.95) 22(-12.6,4.65) 23(-12.6,4.35) 24(-12.6,4.05) 25(-12.6,3.75) 26(-12.6,3.45) 27(-12.6,3.15) 28(-12.6,2.85) 29(-12.6,2.55) 30(-12.6,2.25) 31(-12.6,1.95) 32(-12.6,1.65) 33(-12.6,1.35) 34(-12.6,1.05) 35(-12.6,0.75) 36(-12.6,0.45) 37(-12.6,0.15) 38(-12.6,-0.15) 39(-12.6,-0.45) 40(-12.6,-0.75) 41(-12.6,-1.05) 42(-12.6,-1.35) 43(-12.6,-1.65) 44(-12.6,-1.95) 45(-12.6,-2.25) 46(-12.6,-2.55) 47(-12.6,-2.85) 48(-12.6,-3.15) 49(-12.6,-3.45) 50(-12.6,-3.75) 51(-12.6,-4.05) 52(-12.6,-4.35) 53(-12.6,-4.65) 54(-12.6,-4.95) 55(-12.6,-5.25) 56(-12.6,-5.55) 57(-12.6,-5.85) 58(-12.6,-6.15) 59(-12.6,-6.45) 60(-12.6,-6.75) 61(-12.6,-7.05) 62(-12.6,-7.35) 63(-12.6,-7.65) 64(-12.6,-7.95) 65(-12.6,-8.25) 66(-12.6,-8.55) 67(-12.6,-8.85) 68(-12.6,-9.15) 69(-12.6,-9.45) 70(-12.6,-9.75) 71(-12.6,-10.05) 72(-12.6,-10.35) 73(-12.6,-10.65) 74(-12.6,-10.95) 149(12.6,-10.95) 150(12.6,-10.65) 151(12.6,-10.35) 152(12.6,-10.05) 153(12.6,-9.75) 154(12.6,-9.45) 155(12.6,-9.15) 156(12.6,-8.85) 157(12.6,-8.55) 158(12.6,-8.25) 159(12.6,-7.95) 160(12.6,-7.65) 161(12.6,-7.35) 162(12.6,-7.05) 163(12.6,-6.75) 164(12.6,-6.45) 165(12.6,-6.15) 166(12.6,-5.85) 167(12.6,-5.55) 168(12.6,-5.25) 169(12.6,-4.95) 170(12.6,-4.65) 171(12.6,-4.35) 172(12.6,-4.05) 173(12.6,-3.75) 174(12.6,-3.45) 175(12.6,-3.15) 176(12.6,-2.85) 177(12.6,-2.55) 178(12.6,-2.25) 179(12.6,-1.95) 180(12.6,-1.65) 181(12.6,-1.35) 182(12.6,-1.05) 183(12.6,-0.75) 184(12.6,-0.45) 185(12.6,-0.15) 186(12.6,0.15) 187(12.6,0.45) 188(12.6,0.75) 189(12.6,1.05) 190(12.6,1.35) 191(12.6,1.65) 192(12.6,1.95) 193(12.6,2.25) 194(12.6,2.55) 195(12.6,2.85) 196(12.6,3.15) 197(12.6,3.45) 198(12.6,3.75) 199(12.6,4.05) 200(12.6,4.35) 201(12.6,4.65) 202(12.6,4.95) 203(12.6,5.25) 204(12.6,5.55) 205(12.6,5.85) 206(12.6,6.15) 207(12.6,6.45) 208(12.6,6.75) 209(12.6,7.05) 210(12.6,7.35) 211(12.6,7.65) 212(12.6,7.95) 213(12.6,8.25) 214(12.6,8.55) 215(12.6,8.85) 216(12.6,9.15) 217(12.6,9.45) 218(12.6,9.75) 219(12.6,10.05) 220(12.6,10.35) 221(12.6,10.65) 222(12.6,10.95)
  rect 0.17x1.6 smd: 75(-10.95,-12.6) 76(-10.65,-12.6) 77(-10.35,-12.6) 78(-10.05,-12.6) 79(-9.75,-12.6) 80(-9.45,-12.6) 81(-9.15,-12.6) 82(-8.85,-12.6) 83(-8.55,-12.6) 84(-8.25,-12.6) 85(-7.95,-12.6) 86(-7.65,-12.6) 87(-7.35,-12.6) 88(-7.05,-12.6) 89(-6.75,-12.6) 90(-6.45,-12.6) 91(-6.15,-12.6) 92(-5.85,-12.6) 93(-5.55,-12.6) 94(-5.25,-12.6) 95(-4.95,-12.6) 96(-4.65,-12.6) 97(-4.35,-12.6) 98(-4.05,-12.6) 99(-3.75,-12.6) 100(-3.45,-12.6) 101(-3.15,-12.6) 102(-2.85,-12.6) 103(-2.55,-12.6) 104(-2.25,-12.6) 105(-1.95,-12.6) 106(-1.65,-12.6) 107(-1.35,-12.6) 108(-1.05,-12.6) 109(-0.75,-12.6) 110(-0.45,-12.6) 111(-0.15,-12.6) 112(0.15,-12.6) 113(0.45,-12.6) 114(0.75,-12.6) 115(1.05,-12.6) 116(1.35,-12.6) 117(1.65,-12.6) 118(1.95,-12.6) 119(2.25,-12.6) 120(2.55,-12.6) 121(2.85,-12.6) 122(3.15,-12.6) 123(3.45,-12.6) 124(3.75,-12.6) 125(4.05,-12.6) 126(4.35,-12.6) 127(4.65,-12.6) 128(4.95,-12.6) 129(5.25,-12.6) 130(5.55,-12.6) 131(5.85,-12.6) 132(6.15,-12.6) 133(6.45,-12.6) 134(6.75,-12.6) 135(7.05,-12.6) 136(7.35,-12.6) 137(7.65,-12.6) 138(7.95,-12.6) 139(8.25,-12.6) 140(8.55,-12.6) 141(8.85,-12.6) 142(9.15,-12.6) 143(9.45,-12.6) 144(9.75,-12.6) 145(10.05,-12.6) 146(10.35,-12.6) 147(10.65,-12.6) 148(10.95,-12.6) 223(10.95,12.6) 224(10.65,12.6) 225(10.35,12.6) 226(10.05,12.6) 227(9.75,12.6) 228(9.45,12.6) 229(9.15,12.6) 230(8.85,12.6) 231(8.55,12.6) 232(8.25,12.6) 233(7.95,12.6) 234(7.65,12.6) 235(7.35,12.6) 236(7.05,12.6) 237(6.75,12.6) 238(6.45,12.6) 239(6.15,12.6) 240(5.85,12.6) 241(5.55,12.6) 242(5.25,12.6) 243(4.95,12.6) 244(4.65,12.6) 245(4.35,12.6) 246(4.05,12.6) 247(3.75,12.6) 248(3.45,12.6) 249(3.15,12.6) 250(2.85,12.6) 251(2.55,12.6) 252(2.25,12.6) 253(1.95,12.6) 254(1.65,12.6) 255(1.35,12.6) 256(1.05,12.6) 257(0.75,12.6) 258(0.45,12.6) 259(0.15,12.6) 260(-0.15,12.6) 261(-0.45,12.6) 262(-0.75,12.6) 263(-1.05,12.6) 264(-1.35,12.6) 265(-1.65,12.6) 266(-1.95,12.6) 267(-2.25,12.6) 268(-2.55,12.6) 269(-2.85,12.6) 270(-3.15,12.6) 271(-3.45,12.6) 272(-3.75,12.6) 273(-4.05,12.6) 274(-4.35,12.6) 275(-4.65,12.6) 276(-4.95,12.6) 277(-5.25,12.6) 278(-5.55,12.6) 279(-5.85,12.6) 280(-6.15,12.6) 281(-6.45,12.6) 282(-6.75,12.6) 283(-7.05,12.6) 284(-7.35,12.6) 285(-7.65,12.6) 286(-7.95,12.6) 287(-8.25,12.6) 288(-8.55,12.6) 289(-8.85,12.6) 290(-9.15,12.6) 291(-9.45,12.6) 292(-9.75,12.6) 293(-10.05,12.6) 294(-10.35,12.6) 295(-10.65,12.6) 296(-10.95,12.6)
Top Overlay:
  circle w0.6: c-10.4,10.4 r0.3
  circle w0.25: c-13.96,10.95 r0.125
  lines w0.2: -11.4,-11.4 -11.4,11.4 11.4,11.4 11.4,-11.4 -11.4,-11.4